# Altium footprint library BUTTONS.PcbLib: 14 footprints
Each footprint in its own frame and in the unit in brackets; x right, y up, seen from the top. Pads: shape width x height; smd on the part's side, far side on the other; paste and mask are expansions set on the pad; w line width, h text height; cw(c..) or ccw(c..) is an arc to the next point about the centre after c.
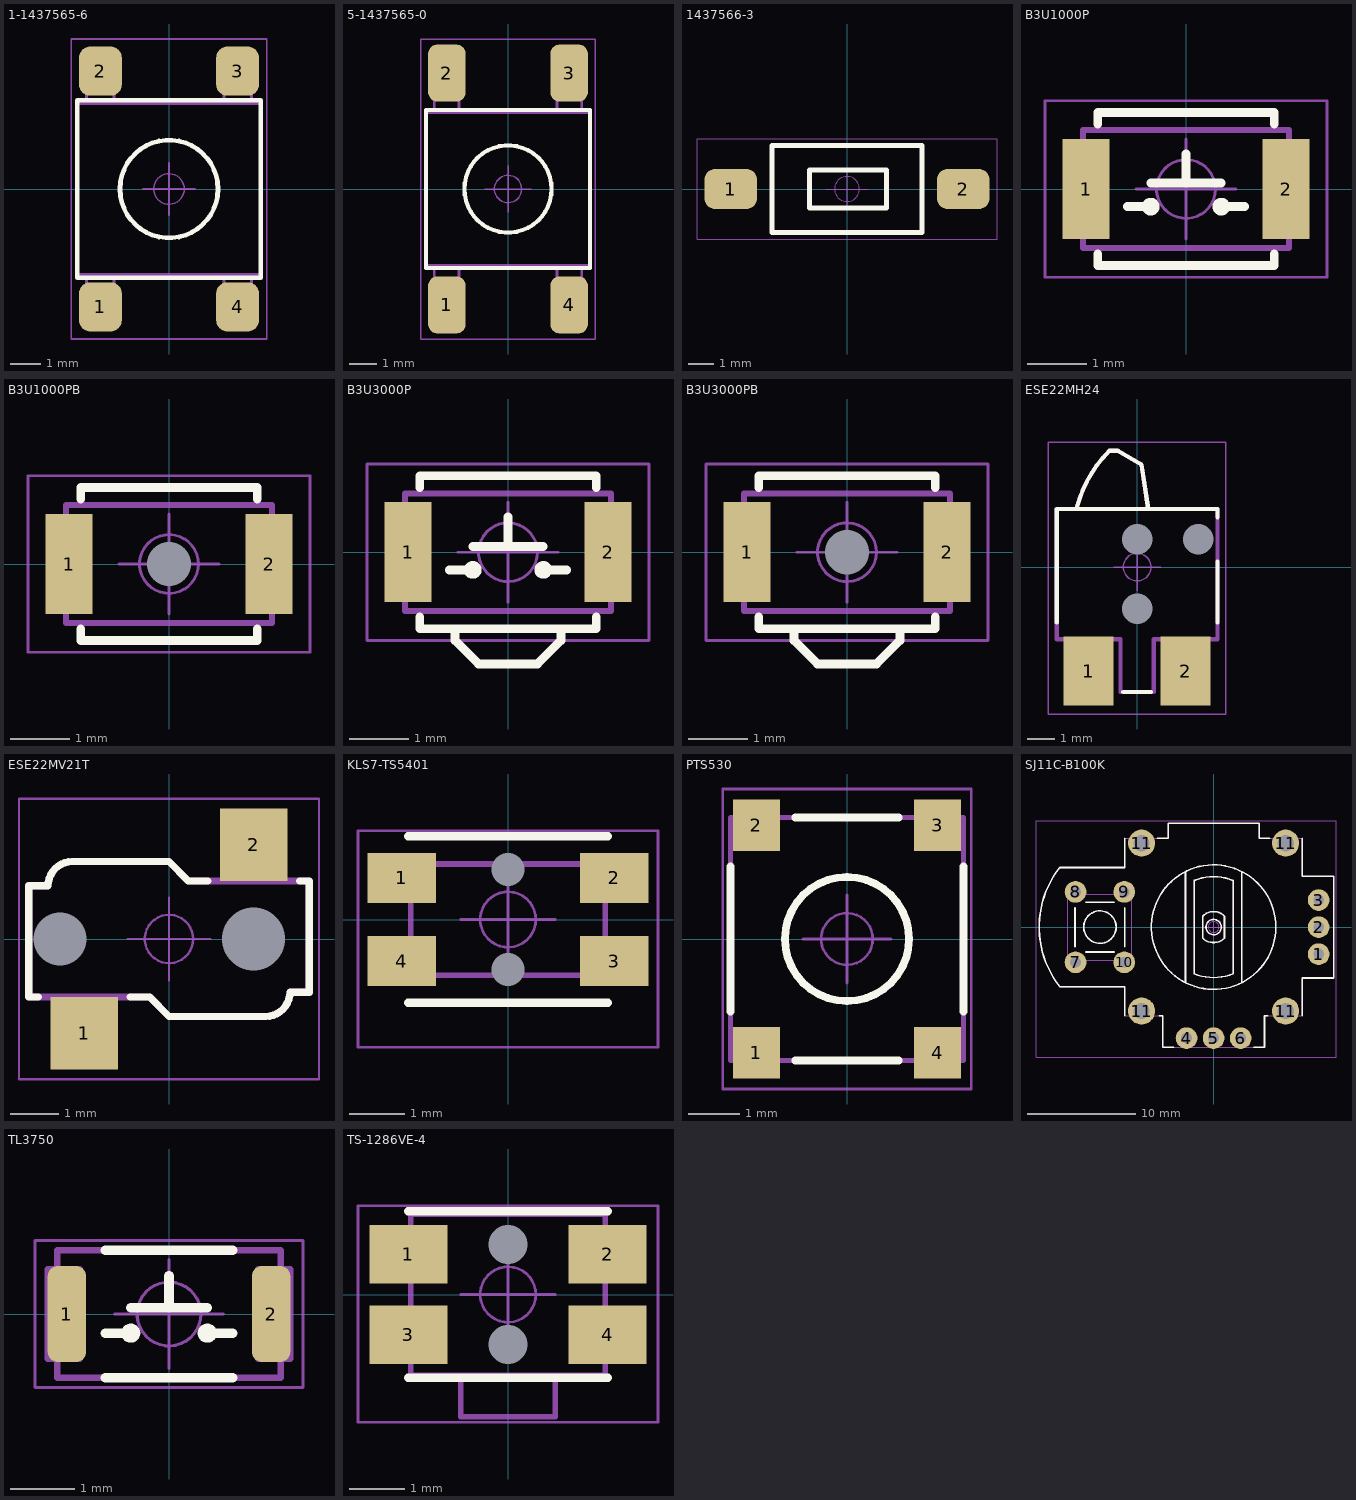
[diagram p0: the footprints below, top view; thin cyan lines are the x and y axes]

## 1-1437565-6 [mm]
pads (4):
  rrect50% 1.395x1.6 smd: 1(-2.24,-3.85) 2(-2.24,3.85) 3(2.24,3.85) 4(2.24,-3.85)
Top Overlay:
  circle w0.15: c0,0 r1.6
  lines w0.15: -3,-2.9 -3,2.9 3,2.9 3,-2.9 -3,-2.9
ASM Top:
  circle w0.1: c0,0 r1.6
  lines w0.1: -2.7,-2.8 -2.7,-4 -1.8,-4 -1.8,-2.8 ; -2.7,2.8 -2.7,4 -1.8,4 -1.8,2.8 ; 1.8,-2.8 1.8,-4 2.7,-4 2.7,-2.8 ; 1.8,2.8 1.8,4 2.7,4 2.7,2.8 ; -3,-2.8 3,-2.8 3,2.8 -3,2.8 -3,-2.8
  text ".Designator" at -0.95,-0.4 h0.7
PNP Top:
  circle w0.05: c0,0 r0.5
  lines w0.05: -0.85,0 0.85,0 ; 0,-0.85 0,0.85 ; -3.2,-4.9 -3.2,4.9 3.2,4.9 3.2,-4.9 -3.2,-4.9
3D body "1-1437565-6.stp": height 3.11, standoff 0.01, extent -3.1,-4 3.1,4

## 5-1437565-0 [mm]
pads (4):
  rrect50% 1.38x2.1 smd: 1(-2.24,-4.25) 2(-2.24,4.25) 3(2.24,4.25) 4(2.24,-4.25)
Top Overlay:
  circle w0.15: c0,0 r1.6
  lines w0.15: -3,-2.9 3,-2.9 3,2.9 -3,2.9 -3,-2.9
ASM Top:
  circle w0.1: c0,0 r1.6
  lines w0.1: -2.7,-2.8 -2.7,-4.4 -1.8,-4.4 -1.8,-2.8 ; -2.7,2.8 -2.7,4.4 -1.8,4.4 -1.8,2.8 ; 1.8,-2.8 1.8,-4.4 2.7,-4.4 2.7,-2.8 ; 1.8,2.8 1.8,4.4 2.7,4.4 2.7,2.8 ; -3,-2.8 -3,2.8 3,2.8 3,-2.8 -3,-2.8
  text ".Designator" at -0.95,-0.4 h0.7
PNP Top:
  circle w0.05: c0,0 r0.5
  lines w0.05: -0.85,0 0.85,0 ; 0,-0.85 0,0.85 ; -3.2,-5.5 3.2,-5.5 3.2,5.5 -3.2,5.5 -3.2,-5.5
3D body "5-1437565-0.STEP": height 5.05, standoff 0.05, extent -3,-4.5 3,4.5

## 1437566-3 [mm]
pads (2):
  rrect50% 2.1x1.6 smd: 1(-4.65,0) 2(4.65,0)
Top Overlay:
  lines w0.2: -3,-1.75 -3,1.75 3,1.75 3,-1.75 -3,-1.75 ; -1.5,-0.75 -1.5,0.75 1.575,0.75 1.575,-0.75 -1.5,-0.75
ASM Top:
  lines w0.1: -3,-1.75 3,-1.75 3,1.75 -3,1.75 -3,-1.75 ; -1.5,-0.75 1.575,-0.75 1.575,0.75 -1.5,0.75 -1.5,-0.75
  text ".Designator" at -0.95,-0.4 h0.7
PNP Top:
  circle w0.05: c0,0 r0.5
  lines w0.05: -0.85,0 0.85,0 ; 0,-0.85 0,0.85 ; -6,-2 -6,2 6,2 6,-2 -6,-2
3D body "PB_TYCO_FSMSM.stp": height 4.3, standoff 0, extent -5,-1.75 5,1.75

## B3U1000P [mm] "Ultra-small tactile switch"
pads (2):
  rect 0.8x1.7 smd: 1(-1.7,0) 2(1.7,0)
Top Overlay:
  circle w0.15: c0.6,-0.3 r0.075
  circle w0.15: c-0.6,-0.3 r0.075
  lines w0.15: -1.5,-1.1 -1.5,-1.3 1.5,-1.3 1.5,-1.1 ; -1.5,1.1 -1.5,1.3 1.5,1.3 1.5,1.1 ; -1,-0.3 -0.6,-0.3 ; -0.6,0.1 0.6,0.1 ; 0,0.1 0,0.6 ; 0.6,-0.3 1,-0.3
ASM Top:
  lines w0.1: -2,-0.7 -2,0.7 -1.4,0.7 -1.4,-0.7 -2,-0.7 ; -1.75,-1 1.75,-1 1.75,1 -1.75,1 -1.75,-1 ; 1.4,-0.7 2,-0.7 2,0.7 1.4,0.7 1.4,-0.7
  text ".Designator" at -0.85,-0.3 h0.65
PNP Top:
  circle w0.05: c0,0 r0.5
  lines w0.05: -0.85,0 0.85,0 ; 0,-0.85 0,0.85 ; -2.4,-1.5 -2.4,1.5 2.4,1.5 2.4,-1.5 -2.4,-1.5
3D body "b3u-1000p.stp": height 1.6, standoff 0, extent -2,-1.25 2,1.25

## B3U1000PB [mm] "Ultra-small tactile switch"
pads (3):
  rect 0.8x1.7 smd: 1(-1.7,0) 2(1.7,0)
  round 0 hole 0.75: 3(0,0)
Top Overlay:
  lines w0.15: -1.5,-1.1 -1.5,-1.3 1.5,-1.3 1.5,-1.1 ; -1.5,1.1 -1.5,1.3 1.5,1.3 1.5,1.1
ASM Top:
  lines w0.1: -2,-0.7 -1.4,-0.7 -1.4,0.7 -2,0.7 -2,-0.7 ; -1.75,-1 -1.75,1 1.75,1 1.75,-1 -1.75,-1 ; 1.4,-0.7 1.4,0.7 2,0.7 2,-0.7 1.4,-0.7
  text ".Designator" at -0.85,-0.3 h0.65
PNP Top:
  circle w0.05: c0,0 r0.5
  lines w0.05: -0.85,0 0.85,0 ; 0,-0.85 0,0.85 ; -2.4,-1.5 2.4,-1.5 2.4,1.5 -2.4,1.5 -2.4,-1.5
3D body "b3u-1000p-b.stp": height 1.6, standoff -0.5, extent -2,-1.25 2,1.25

## B3U3000P [mm] "Ultra-small tactile switch"
pads (2):
  rect 0.8x1.7 smd: 1(-1.7,0) 2(1.7,0)
Top Overlay:
  circle w0.15: c0.6,-0.3 r0.075
  circle w0.15: c-0.6,-0.3 r0.075
  lines w0.15: -1.5,-1.1 -1.5,-1.3 1.5,-1.3 1.5,-1.1 ; -1.5,1.1 -1.5,1.3 1.5,1.3 1.5,1.1 ; -1,-0.3 -0.6,-0.3 ; -0.9,-1.3 -0.9,-1.5 -0.5,-1.9 0.5,-1.9 0.9,-1.5 0.9,-1.3 ; -0.6,0.1 0.6,0.1 ; 0,0.1 0,0.6 ; 0.6,-0.3 1,-0.3
ASM Top:
  lines w0.1: -2,-0.7 -1.4,-0.7 -1.4,0.7 -2,0.7 -2,-0.7 ; -1.75,-1 1.75,-1 1.75,1 -1.75,1 -1.75,-1 ; 1.4,-0.7 1.4,0.7 2,0.7 2,-0.7 1.4,-0.7
  text ".Designator" at -0.85,-0.3 h0.65
PNP Top:
  circle w0.05: c0,0 r0.5
  lines w0.05: -0.85,0 0.85,0 ; 0,-0.85 0,0.85 ; -2.4,-1.5 -2.4,1.5 2.4,1.5 2.4,-1.5 -2.4,-1.5
3D body "b3u-3000p.stp": height 1.2, standoff 0, extent -2,-1.95 2,1.25

## B3U3000PB [mm] "Ultra-small tactile switch"
pads (3):
  rect 0.8x1.7 smd: 1(-1.7,0) 2(1.7,0)
  round 0 hole 0.75: 3(0,0)
Top Overlay:
  lines w0.15: -1.5,-1.1 -1.5,-1.3 1.5,-1.3 1.5,-1.1 ; -1.5,1.1 -1.5,1.3 1.5,1.3 1.5,1.1 ; -0.9,-1.3 -0.9,-1.5 -0.5,-1.9 0.5,-1.9 0.9,-1.5 0.9,-1.3
ASM Top:
  lines w0.1: -2,-0.7 -1.4,-0.7 -1.4,0.7 -2,0.7 -2,-0.7 ; -1.75,-1 1.75,-1 1.75,1 -1.75,1 -1.75,-1 ; 1.4,-0.7 1.4,0.7 2,0.7 2,-0.7 1.4,-0.7
  text ".Designator" at -0.85,-0.3 h0.65
PNP Top:
  circle w0.05: c0,0 r0.5
  lines w0.05: -0.85,0 0.85,0 ; 0,-0.85 0,0.85 ; -2.4,-1.5 -2.4,1.5 2.4,1.5 2.4,-1.5 -2.4,-1.5
3D body "b3u-3000p-b.stp": height 1.2, standoff -0.5, extent -2,-1.95 2,1.25

## ESE22MH24 [mm] "Detector Switch"
pads (5):
  rect 1.8x2.5 smd: 1(-1.75,-3.75) 2(1.75,-3.75)
  round 0 hole 1.1: MH(0,-1.5) MH(0,1) MH(2.2,1)
Top Overlay:
  lines w0.15: -2.9,-2 -2.9,2.1 2.9,2.1 2.9,1.8 ; -2.184,2.122 cw(c2.2,1) -1,4.2 -0.7,4.2 0.161,3.694 0.4,2.1 ; -0.5,-4.5 0.5,-4.5 ; 2.9,-2 2.9,0.2
ASM Top:
  lines w0.15: -2.3,-2.6 -2.3,-4.2 -1.2,-4.2 -1.2,-2.6 ; -2.184,2.122 cw(c2.2,1) -1,4.2 -0.7,4.2 0.161,3.694 0.4,2.1 ; 1.2,-2.6 1.2,-4.2 2.3,-4.2 2.3,-2.6 ; -2.9,-2.6 -0.6,-2.6 -0.6,-4.5 0.6,-4.5 0.6,-2.6 2.9,-2.6 2.9,2.1 -2.9,2.1 -2.9,-2.6
  text ".Designator" at -0.9,-0.7 h0.7
PNP Top:
  circle w0.05: c0,0 r0.5
  lines w0.05: -0.85,0 0.85,0 ; 0,-0.85 0,0.85 ; -3.2,-5.3 -3.2,4.5 3.2,4.5 3.2,-5.3 -3.2,-5.3
3D body "ESE22MH24.step": height 2, standoff -0.5, extent -2.87,-4.45 2.88,4.2

## ESE22MV21T [mm] "Detector Switch"
pads (4):
  rect 1.4x1.5 smd: 1(-1.75,-1.95) 2(1.75,1.95)
  round 0 hole 1.1: MH(-2.25,0)
  round 0 hole 1.3: MH(1.75,0)
Top Overlay:
  lines w0.15: -2.7,-1.2 -2.9,-1.2 -2.9,1.1 -2.5,1.1 cw(c-2,1.1) -2,1.6 0,1.6 0.4,1.2 0.8,1.2 ; -0.8,-1.2 -0.4,-1.2 0,-1.6 2,-1.6 ccw(c2,-1.1) 2.5,-1.1 2.9,-1.1 2.9,1.2 2.7,1.2
ASM Top:
  lines w0.15: -2.3,-1.2 -2.3,-2 -1.2,-2 -1.2,-1.2 ; 1.2,1.2 1.2,2.1 2.3,2.1 2.3,1.2 ; -2.9,-1.2 -2.9,1.1 -2.5,1.1 cw(c-2,1.1) -2,1.6 0,1.6 0.4,1.2 2.9,1.2 2.9,-1.1 2.5,-1.1 cw(c2,-1.1) 2,-1.6 0,-1.6 -0.4,-1.2 -2.9,-1.2
  text ".Designator" at -0.4,-0.3 h0.7
PNP Top:
  circle w0.05: c0,0 r0.5
  lines w0.05: -0.85,0 0.85,0 ; 0,-0.85 0,0.85 ; -3.1,-2.9 3.1,-2.9 3.1,2.9 -3.1,2.9 -3.1,-2.9
3D body "ESE22MV21T.step": height 6.3, standoff -0.8, extent -2.875,-2.2 2.875,2.2

## KLS7-TS5401 [mm] "Tactile switch"
pads (6):
  rect 1.225x0.9 smd: 1(-1.913,0.75) 2(1.913,0.75) 3(1.913,-0.75) 4(-1.913,-0.75)
  round 0 hole 0.6: 5(0,-0.9) 6(0,0.9)
Top Overlay:
  lines w0.15: -1.8,-1.5 1.8,-1.5 ; -1.8,1.5 1.8,1.5
ASM Top:
  lines w0.1: -1.75,-1 -1.75,1 1.75,1 1.75,-1 -1.75,-1
  text ".Designator" at -0.85,-0.3 h0.65
PNP Top:
  circle w0.05: c0,0 r0.5
  lines w0.05: -0.85,0 0.85,0 ; 0,-0.85 0,0.85 ; -2.7,-2.3 2.7,-2.3 2.7,1.6 -2.7,1.6 -2.7,-2.3
3D body "KLS7-TS5401.STEP": height 1.43, standoff -0.47, extent -2.325,-2.15 2.325,1.5

## PTS530 [mm]
pads (4):
  rect 0.9x1 smd: 1(-1.75,-2.2) 2(-1.75,2.2) 3(1.75,2.2) 4(1.75,-2.2)
Top Overlay:
  circle w0.15: c0,0 r1.2
  lines w0.15: -2.25,-1.4 -2.25,1.4 ; -1,-2.35 1,-2.35 ; -1,2.35 1,2.35 ; 2.25,-1.4 2.25,1.4
ASM Top:
  circle w0.1: c0,0 r1.204
  lines w0.1: -2.25,-2.35 2.25,-2.35 2.25,2.35 -2.25,2.35 -2.25,-2.35 ; -2.1,-2.6 -1.4,-2.6 -1.4,-2.35 -1.4,-1.8 -2.1,-1.8 -2.1,-2.6 ; -2.1,1.8 -1.4,1.8 -1.4,2.35 -1.4,2.6 -2.1,2.6 -2.1,1.8 ; 1.4,-2.6 2.1,-2.6 2.1,-1.8 1.4,-1.8 1.4,-2.35 1.4,-2.6 ; 1.4,1.8 1.4,2.35 1.4,2.6 2.1,2.6 2.1,1.8 1.4,1.8
  text ".Designator" at -1,-0.4 h0.7
PNP Top:
  circle w0.05: c0,0 r0.5
  lines w0.05: -0.85,0 0.85,0 ; 0,-0.85 0,0.85 ; -2.4,-2.9 2.4,-2.9 2.4,2.9 -2.4,2.9 -2.4,-2.9
3D body "PTS530GH055SMTRLFS.STEP": height 0.6, standoff 0.05, extent -2.25,-2.325 2.25,2.325

## SJ11C-B100K [mm] "3D potentiometer with button"
pads (14):
  round 2 hole 1 mask+0.075: 1(9.7,-2.5) 2(9.7,0) 3(9.7,2.5) 4(-2.5,-10.25) 5(0,-10.25) 6(2.5,-10.25) 7(-12.75,-3.25) 8(-12.75,3.25) 9(-8.25,3.25) 10(-8.25,-3.25)
  round 2.5 hole 1.5 mask+0.075: 11(-6.65,-7.75) 11(-6.65,7.75) 11(6.65,-7.75) 11(6.65,7.75)
Top Overlay:
  circle w0.15: c-10.5,0 r1.5
  circle w0.15: c0,0 r0.707
  circle w0.15: c0,0 r5.749
  lines w0.15: -12.8,-1.8 -12.8,1.8 ; -11.8,-2.3 -9.2,-2.3 ; -11.8,2.3 -9.2,2.3 ; -8.2,-8.2 -8.2,-5.5 -14.211,-5.5 cw(c-7.2,0) -14.211,5.5 -8.2,5.5 -8.2,8.2 ; -8.2,-1.8 -8.2,1.8 ; -5.2,8.2 -4.2,8.2 -4.2,9.6 4.2,9.6 4.2,8.2 5.2,8.2 ; -5,-8.2 -4.7,-8.2 -4.7,-11.1 -3.7,-11.1 ; -2.6,-5.1 -2.6,5.1 ; -1.012,-1.012 ccw(c0,0) 1.012,-1.012 ; -1.012,1.012 cw(c0,0) 1.012,1.012 ; -1,-1 -1,1 ; 1,-1 1,1 ; 2.6,-5.1 2.6,5.1 ; 3.7,-11.1 4.7,-11.1 4.7,-8.2 5,-8.2 ; 8.2,-8.2 8.2,-4.7 11.1,-4.7 11.1,4.7 8.2,4.7 8.2,8.2 ; -1.8,-4.3 ccw(c0,0) 1.8,-4.3 1.8,4.3 ccw(c0,0) -1.8,4.3 -1.8,-4.3
ASM Top:
  circle w0.1: c0,0 r5.749
  circle w0.1: c0,0 r0.707
  circle w0.1: c-10.5,0 r1.5
  lines w0.1: -2.6,-5.1 -2.6,5.1 ; -1.012,-1.012 ccw(c0,0) 1.012,-1.012 ; -1.012,1.012 cw(c0,0) 1.012,1.012 ; -1,-1 -1,1 ; 1,-1 1,1 ; 2.6,-5.1 2.6,5.1 ; -14.211,-5.5 cw(c-7.2,0) -14.211,5.5 -8.2,5.5 -8.2,8.2 -4.2,8.2 -4.2,9.6 4.2,9.6 4.2,8.2 8.2,8.2 8.2,4.7 11.1,4.7 11.1,-4.7 8.2,-4.7 8.2,-8.2 4.7,-8.2 4.7,-11.1 -4.7,-11.1 -4.7,-8.2 -8.2,-8.2 -8.2,-5.5 -14.211,-5.5 ; -13.45,-3.05 -7.55,-3.05 -7.55,3.05 -13.45,3.05 -13.45,-3.05 ; -1.8,-4.3 ccw(c0,0) 1.8,-4.3 1.8,4.3 ccw(c0,0) -1.8,4.3 -1.8,-4.3
  text ".Designator" at -3.15,-8.25 h1.5
PNP Top:
  circle w0.05: c0,0 r0.5
  lines w0.05: -0.85,0 0.85,0 ; 0,-0.85 0,0.85 ; -16.4,-12 -16.4,9.8 11.3,9.8 11.3,-12 -16.4,-12
3D body "SJ11C-B100K.step": height 19.1, standoff -4.2, extent -16.026,-11.85 11.85,9.45

## TL3750 [mm]
pads (2):
  rrect50% 0.6x1.5 smd: 1(-1.6,0) 2(1.6,0)
Top Overlay:
  circle w0.15: c0.6,-0.3 r0.075
  circle w0.15: c-0.6,-0.3 r0.075
  lines w0.15: -1,-1 1,-1 ; -1,-0.3 -0.6,-0.3 ; -1,1 1,1 ; -0.6,0.1 0.6,0.1 ; 0,0.1 0,0.6 ; 0.6,-0.3 1,-0.3
ASM Top:
  lines w0.1: -1.9,-0.7 -1.4,-0.7 -1.4,0.7 -1.9,0.7 -1.9,-0.7 ; -1.75,-1 1.75,-1 1.75,1 -1.75,1 -1.75,-1 ; 1.4,-0.7 1.4,0.7 1.9,0.7 1.9,-0.7 1.4,-0.7
  text ".Designator" at -0.85,-0.3 h0.65
PNP Top:
  circle w0.05: c0,0 r0.5
  lines w0.05: -0.85,0 0.85,0 ; 0,-0.85 0,0.85 ; -2.1,-1.15 -2.1,1.15 2.1,1.15 2.1,-1.15 -2.1,-1.15
3D body "TL3750AFxxxQG.stp": height 0.58, standoff 0, extent -1.75,-1 1.75,1

## TS-1286VE-4 [mm] "Tactile switch"
pads (6):
  rect 1.4x1.05 smd: 1(-1.793,0.725) 2(1.793,0.725) 3(-1.793,-0.725) 4(1.793,-0.725)
  round 0 hole 0.7: 5(0,-0.9) 6(0,0.9)
Top Overlay:
  lines w0.15: -1.8,-1.5 1.8,-1.5 ; -1.8,1.5 1.8,1.5
ASM Top:
  lines w0.1: -0.85,-1.45 -0.85,-2.2 0.85,-2.2 0.85,-1.45 ; -1.75,-1.45 1.75,-1.45 1.75,1.45 -1.75,1.45 -1.75,-1.45
  text ".Designator" at -0.85,-0.3 h0.65
PNP Top:
  circle w0.05: c0,0 r0.5
  lines w0.05: -0.85,0 0.85,0 ; 0,-0.85 0,0.85 ; -2.7,-2.3 2.7,-2.3 2.7,1.6 -2.7,1.6 -2.7,-2.3
3D body "KLS7-TS5401.STEP": height 1.43, standoff -0.47, extent -2.325,-2.15 2.325,1.5